# Altium schematic symbol library IND 22UH 6A 33.1 mOHM SMD.Schlib: 1 symbol
Pins are listed as number, name and electrical type; pins without a type are passive.

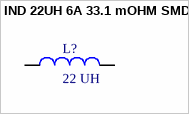
[diagram p0: symbol IND 22UH 6A 33.1 mOHM SMD]

## IND 22UH 6A 33.1 mOHM SMD
designator L?, comment 22 UH
Automotive Grade High Current Power Inductor 22uH 6A 28.8mOhm 5MHz SRF 2-Pin Surface Mount T/R
footprint EATON _HCM1A1307V2-220-R (FIXED IND 22UH 6A 33.1 mOHM SMD)
pins: 1, 2